# Altium schematic symbol library Regulators.SchLib: 14 symbols
Pins are listed as number, name and electrical type; pins without a type are passive.

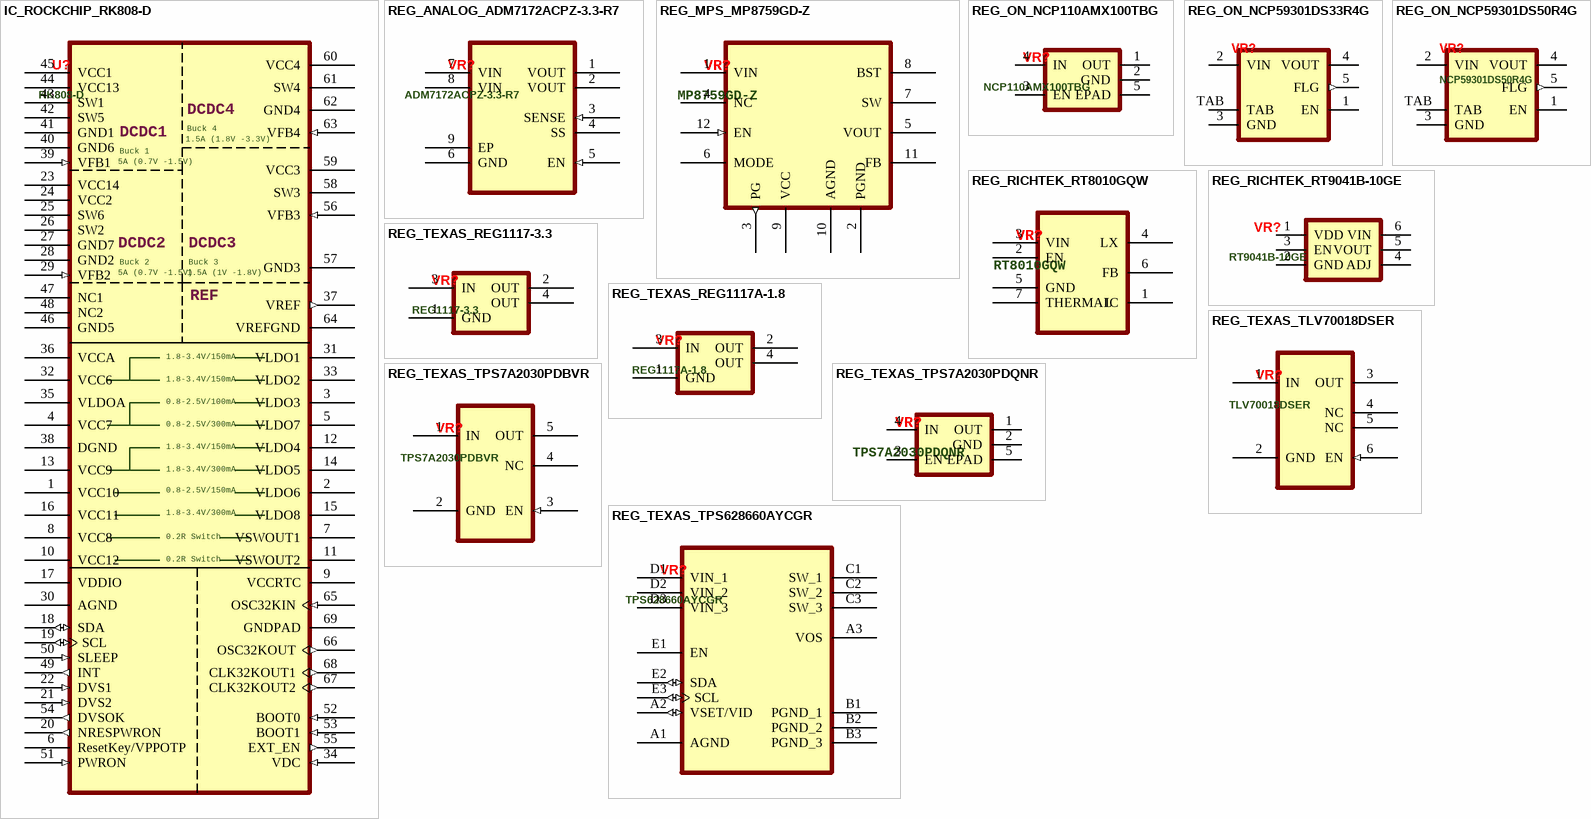
[diagram p0: symbols IC_ROCKCHIP_RK808-D to REG_TEXAS_TPS628660AYCGR]

## IC_ROCKCHIP_RK808-D
designator U?, comment RK808-D
Buck DC-DC Converters (x4), LDO Voltage Regulators (x8), Rds Switches (x2), I2C interface, programmable power sequencing, RTC.; Manufacturer: Fuzhou Rockchip Electronics; Max Supply Voltage: 5.5V; Min Input Voltage: 2.7V; Number of Regulators: 8; Output Type: Adjustable; Polarity: Positive; Manufacturer Part Number: RK808-D; Case/Package: 68-QFN (7x7); ComponentLink1Description: Datasheet; ComponentLink1URL: https://rockchip.fr/RK808%20datasheet%20V1.4.pdf; ComponentLink2Description: Datasheet (Local); ComponentLink2URL: C:\Users\Public\Documents\Altium\Projects\My-PCB-Library\Datasheets\RK808 datasheet V1.4.pdf; Category: Voltage Regulators - Linear
footprint QFN35P700X700X80_HS-69N (QFN, 68-Leads, Body 7.00x7.00mm, Pitch 0.35mm, Thermal Pad 5.49x5.49mm, IPC Medium Density)
footprint QFN35P700X700X80_HS-69L (QFN, 68-Leads, Body 7.00x7.00mm, Pitch 0.35mm, Thermal Pad 5.49x5.49mm, IPC High Density)
footprint QFN35P700X700X80_HS-69M (QFN, 68-Leads, Body 7.00x7.00mm, Pitch 0.35mm, Thermal Pad 5.49x5.49mm, IPC Low Density)
pins: 1 VCC10 (power) "LDO6 Power Supply", 2 VLDO6 (power) "LDO6 Regulator Output", 3 VLDO3 (power) "LDO3 Regulator Output", 4 VCC7 (power) "LDO3,LDO7 Power Supply", 5 VLDO7 (power) "LDO7 Regulator Output", 6 ResetKey/VPPOTP (power) "OTP Power Supply", 7 VSWOUT1 (power) "Switch 1 Output", 8 VCC8 (power) "Switch 1 Power Supply", 9 VCCRTC (power) "RTC Power Supply", 10 VCC12 (power) "Switch 2 Power Supply", 11 VSWOUT2 (power) "Switch 2 Output", 12 VLDO4 (power) "LDO4 Regulator Output", 13 VCC9 (power) "LDO4,LDO5 Power Supply", 14 VLDO5 (power) "LDO5 Regulator Output", 15 VLDO8 (power) "LDO8 Regulator Output", 16 VCC11 (power) "LDO8 Power Supply", 17 VDDIO (power) "Digital I/O Power Supply", 18 SDA (io) "I2C Data Signal", 19 SCL (io) "I2C Clock Signal", 20 NRESPWRON (out) "Power Off Reset for AP / External Reset Digital Core (excludes RTC)", 21 DVS2 (in) "BUCK2 DVS Voltage / Normal Transition Control Signal", 22 DVS1 (in) "BUCK1 DVS Voltage / Normal Transition Control Signal", 23 VCC14 (power) "Buck2 DC-DC Power Supply", 24 VCC2 (power) "Buck2 DC-DC Power Supply", 25 SW6 (power) "Buck2 DC-DC Switch Output", 26 SW2 (power) "Buck2 DC-DC Switch Output", 27 GND7 (power) "Buck2 DC-DC Switch Ground", 28 GND2 (power) "Buck2 DC-DC Switch Ground", 29 VFB2 (in) "Buck2 DC-DC Switch Feedback Voltage", 30 AGND (power) "Analog Ground", 31 VLDO1 (power) "LDO1 Regulator Output", 32 VCC6 (power) "LDO1,LDO2 Power Supply", 33 VLDO2 (power) "LDO2 Regulator Output", 34 VDC (in) "Adapter Voltage Detect Input", 35 VLDOA (power) "Supply for Internal Analog Circuit", 36 VCCA (power) "Analog Power Supply", 37 VREF (out) "Bandgap Voltage", 38 DGND (power) "Digital Ground", 39 VFB1 (in) "Buck1 DC-DC Switch Feedback Voltage", 40 GND6 (power) "Buck1 DC-DC Switch Ground", 41 GND1 (power) "Buck1 DC-DC Switch Ground", 42 SW5 (power) "Buck1 DC-DC Switch Output", 43 SW1 (power) "Buck1 DC-DC Switch Output", 44 VCC13 (power) "Buck1 DC-DC Power Supply", 45 VCC1 (power) "Buck1 DC-DC Power Supply", 46 GND5 (power) "Ground", 47 NC1 "Not Connected", 48 NC2 "Not Connected", 49 INT (out) "Interrupt Flag (Polarity is I2C programmable, default active high)", 50 SLEEP (in) "Active-Sleep State Transition Control Signal", 51 PWRON (in) "External Switch-On Control Signal (ON Button)", 52 BOOT0 (in) "Power-Up Sequence Selection", 53 BOOT1 (in) "Power-Up Sequence Selection", 54 DVSOK (out) "BUCK1 and BUCK2 Power Good Flag after Dynamic Voltage Setting", 55 EXT_EN (out) "Output Enable for External BUCK in 2-Batt Cells Application", 56 VFB3 (in) "Buck3 DC-DC Switch Feedback Voltage", 57 GND3 (power) "Buck3 DC-DC Switch Ground", 58 SW3 (power) "Buck3 DC-DC Switch Output", 59 VCC3 (power) "Buck3 DC-DC Power Supply", 60 VCC4 (power) "Buck4 DC-DC Power Supply", 61 SW4 (power) "Buck4 DC-DC Switch Output", 62 GND4 (power) "Buck4 DC-DC Switch Ground", 63 VFB4 (in) "Buck4 DC-DC Switch Feedback Voltage", 64 VREFGND (power) "Reference Ground", 65 OSC32KIN (in) "32KHz Crystal Oscillator Input", 66 OSC32KOUT (out) "32KHz Crystal Oscillator Output", 67 CLK32KOUT2 (out) "32KHz Clock Output 2, OD Output", 68 CLK32KOUT1 (out) "32KHz Clock Output 1, OD Output (always on)", 69 GNDPAD (power) "Ground"
text: DCDC4; Buck 4; DCDC1; 1.5A (1.8V -3.3V); Buck 1; 5A (0.7V -1.5V); DCDC2; DCDC3; Buck 2; Buck 3; 1.5A (1V -1.8V); REF; 1.8-3.4V/150mA; 0.8-2.5V/100mA; 0.8-2.5V/300mA; 1.8-3.4V/300mA; 0.8-2.5V/150mA; 0.2R Switch

## REG_ANALOG_ADM7172ACPZ-3.3-R7
designator VR?, comment ADM7172ACPZ-3.3-R7
Linear Voltage Regulator IC Positive Fixed 1 Output 3.3V 2A 8-LFCSP-WD (3x3); Manufacturer: Analog Devices; Dropout Voltage: 172mV; Number of Regulators: 1; Min Current Limit: 2.4A; Quiescent Current: 700uA; Max Supply Voltage: 6.5V; Min Input Voltage: 2.3V; Manufacturer Part Number: ADM7172ACPZ-3.3-R7; Category: Voltage Regulators - Linear; Min Operating Temperature: -40°C; Max Operating Temperature: 125°C; Output Voltage: 3.3V; Output Current: 2A; Polarity: Positive; Output Type: Fixed; RoHS Compliant: Yes; Supplier 1: Digi-Key; Supplier Part Number 1: 505-ADM7172ACPZ-3.3-R7CT-ND; Supplier 2: Mouser; Supplier Part Number 2: 584-ADM7172ACPZ3.3R7; ComponentLink1Description: Datasheet; ComponentLink1URL: https://www.analog.com/media/en/technical-documentation/data-sheets/ADM7172.pdf; Case/Package: 8-LFCSP-WD (3x3)
footprint SON50P300X80_HS-9N (SON, 8-Leads, Body 3.00x3.00mm, Pitch 0.50mm, Thermal Pad 2.44x1.49mm, IPC Medium Density)
footprint SON50P300X80_HS-9L (SON, 8-Leads, Body 3.00x3.00mm, Pitch 0.50mm, Thermal Pad 2.44x1.49mm, IPC High Density)
footprint SON50P300X80_HS-9M (SON, 8-Leads, Body 3.00x3.00mm, Pitch 0.50mm, Thermal Pad 2.44x1.49mm, IPC Low Density)
pins: 1 VOUT (power) "Regulated output voltage", 2 VOUT (power) "Regulated output voltage", 3 SENSE (in) "Sense input", 4 SS "Soft Start", 5 EN (in) "Regulator enable", 6 GND (power) "Ground", 7 VIN (power) "Regulator input supply", 8 VIN (power) "Regulator input supply", 9 EP (power) "Exposed Pad"

## REG_MPS_MP8759GD-Z
designator VR?, comment MP8759GD-Z
Buck Switching Regulator IC Positive Adjustable 0.6V 1 Output 8A 12-PowerVFQFN; Manufacturer: Monolithic Power Systems; Output Voltage: 600mV; Max Supply Voltage: 26V; Min Input Voltage: 4.5V; Number of Regulators: 1; Output Current: 10A; Quiescent Current: 135uA; Manufacturer Part Number: MP8759GD-Z; Category: Voltage Regulators - Switching; Min Operating Temperature: -40°C; Max Operating Temperature: 125°C; Output Type: Adjustable; RoHS Compliant: Yes; ComponentLink1URL: https://www.monolithicpower.com/pub/media/document/MP8759_r1.1.pdf?src-supplier=Digi-Key; ComponentLink1Description: Datasheet; Polarity: Positive; Supplier 1: Digi-Key; Supplier Part Number 1: 1589-1736-1-ND; Supplier 2: Mouser; Supplier Part Number 2: 946-MP8759GD-Z; Case/Package: 12-QFN (2x3)
footprint IC_MPS_MP8759GDZ (Buck Switching Regulator IC Positive Adjustable 0.6V 1 Output 8A 12-PowerVFQFN)
pins: 1 VIN (power) "Supply Voltage", 2 PGND (power) "Power Ground", 3 PG (out) "Power Good Output", 4 NC "Do Not Connect", 5 VOUT (power) "Output Voltage", 6 MODE "USM, PFM, PWM mode selection", 7 SW "Switch Output", 8 BST "Bootstrap", 9 VCC (power) "Internal VCC LDO Output", 10 AGND (power) "Signal Logic Ground", 11 FB "Feedback", 12 EN (in) "Enable"

## REG_ON_NCP110AMX100TBG
designator VR?, comment NCP110AMX100TBG
Linear Voltage Regulator IC Positive Fixed 1 Output 200mA 4-XDFN (1x1); Manufacturer: ON Semiconductor; Max Supply Voltage: 5.5V; Number of Regulators: 1; Output Voltage: 1V; Quiescent Current: 25uA; Supplier 1: Mouser; Manufacturer Part Number: NCP110AMX100TBG; Category: Voltage Regulators - Linear; RoHS Compliant: Yes; Supplier 2: Digi-Key; Supplier Part Number 1: 863-NCP110AMX100TBG; Supplier Part Number 2: NCP110AMX100TBGOSTR-ND; ComponentLink1Description: Datasheet; ComponentLink1URL: https://www.onsemi.com/pdf/datasheet/ncp110-d.pdf; Case/Package: 4-XDFN (1x1); Max Operating Temperature: 125°C; Min Operating Temperature: -40°C; Output Current: 200mA; Output Type: Fixed; Polarity: Positive
footprint XDFN65P100X43_HS-5N (XDFN, 5-Leads, Body 1.00x1.00mm, Pitch 0.65mm, Thermal Pad 0.52x0.52mm, IPC Medium Density)
pins: 1 OUT (power) "Regulated Output Voltage", 2 GND (power) "Ground", 3 EN "Chip Enable", 4 IN (power) "Input Voltage Supply", 5 EPAD (power) "Can be tied to GND"

## REG_ON_NCP59301DS33R4G
designator VR?, comment NCP59301DS33R4G  (value not drawn)
Linear Voltage Regulator IC Positive Fixed 1 Output 3A D2PAK-5; Manufacturer: ON Semiconductor; Output Voltage: 3.3V; Min Input Voltage: 2.24V; Number of Regulators: 1; Dropout Voltage: 500mV; Max Supply Voltage: 13.5V; Manufacturer Part Number: NCP59301DS33R4G; Category: Voltage Regulators - Linear; Case/Package: D2PAK; Min Operating Temperature: -40°C; Max Operating Temperature: 125°C; Output Type: Fixed; Output Current: 3A; Polarity: Positive; ComponentLink1URL: https://www.digikey.com/en/htmldatasheets/production/1123947/0/0/1/ncp59300-series.html?site=US&lang=en&cur=USD; ComponentLink1Description: Datasheet; RoHS Compliant: Yes
footprint DPAK170P1420X457-6N (D2-PAK, 6-Pads, Body 7.77x8.48mm (max), IPC Medium Density)
footprint DPAK170P1420X457-6L (D2-PAK, 6-Pads, Body 7.77x8.48mm (max), IPC High Density)
footprint DPAK170P1420X457-6M (D2-PAK, 6-Pads, Body 7.77x8.48mm (max), IPC Low Density)
pins: 1 EN, 2 VIN (power), 3 GND (power), 4 VOUT (power), 5 FLG (out), TAB (power)

## REG_ON_NCP59301DS50R4G
designator VR?, comment NCP59301DS50R4G
Linear Voltage Regulator IC Positive Fixed 1 Output 3A D2PAK-5; Manufacturer: ON Semiconductor; Min Input Voltage: 2.24V; Output Voltage: 5V; Number of Regulators: 1; Dropout Voltage: 500mV; Max Supply Voltage: 13.5V; Manufacturer Part Number: NCP59301DS50R4G; Case/Package: D2PAK; Min Operating Temperature: -40°C; Max Operating Temperature: 125°C; Output Current: 3A; Polarity: Positive; Output Type: Fixed; RoHS Compliant: Yes; ComponentLink1URL: https://www.digikey.com/en/htmldatasheets/production/1123947/0/0/1/ncp59300-series.html?site=US&lang=en&cur=USD; ComponentLink1Description: Datasheet; Category: Voltage Regulators - Linear
footprint DPAK170P1420X457-6N (D2-PAK, 6-Pads, Body 7.77x8.48mm (max), IPC Medium Density)
footprint DPAK170P1420X457-6L (D2-PAK, 6-Pads, Body 7.77x8.48mm (max), IPC High Density)
footprint DPAK170P1420X457-6M (D2-PAK, 6-Pads, Body 7.77x8.48mm (max), IPC Low Density)
pins: 1 EN, 2 VIN (power), 3 GND (power), 4 VOUT (power), 5 FLG (out), TAB (power)

## REG_RICHTEK_RT8010GQW
designator VR?, comment RT8010GQW
Buck Switching Regulator IC Positive Adjustable 0.6V 1 Output 1A 6-WDFN Exposed Pad; Manufacturer: Richtek; Output Voltage: 3.3V; Min Input Voltage: 2.5V; Max Supply Voltage: 5.5V; Number of Regulators: 1; Manufacturer Part Number: RT8010GQW; Category: Voltage Regulators - Switching; Case/Package: 6-WDFN (2x2); Min Operating Temperature: -40°C; Max Operating Temperature: 85°C; Output Current: 1A; Output Type: Adjustable; RoHS Compliant: Yes; ComponentLink1URL: https://www.richtek.com/assets/product_file/RT8010=RT8010A/DS8010A-12.pdf; ComponentLink1Description: Datasheet; Polarity: Positive; Supplier 1: Digi-Key; Supplier Part Number 1: 1028-1492-1-ND
footprint SON65P200X80_HS-7N (SON, 6-Leads, Body 2.00x2.00mm, Pitch 0.65mm, Thermal Pad 1.23x0.68mm, IPC Medium Density)
footprint SON65P200X80_HS-7L (SON, 6-Leads, Body 2.00x2.00mm, Pitch 0.65mm, Thermal Pad 1.23x0.68mm, IPC High Density)
footprint SON65P200X80_HS-7M (SON, 6-Leads, Body 2.00x2.00mm, Pitch 0.65mm, Thermal Pad 1.23x0.68mm, IPC Low Density)
pins: 1 IC "Internal Connection", 2 EN "Chip Enable", 3 VIN (power) "Power Input", 4 LX "Pin for switching", 5 GND (power) "Ground", 6 FB (power) "Feeback/Output Voltage", 7 THERMAL (power) "Ground"

## REG_RICHTEK_RT9041B-10GE
designator VR?, comment RT9041B-10GE
Linear Voltage Regulator IC Positive Adjustable (Fixed) 1 Output 500mA SOT-23-6; Manufacturer: Richtek; Min Input Voltage: 1V; Dropout Voltage: 300mV; Output Voltage: 2.5V; Number of Regulators: 1; Min Current Limit: 550mA; Max Supply Voltage: 5.5V; Quiescent Current: 250uA; Supplier 1: Digi-Key; Manufacturer Part Number: RT9041B-10GE; Category: Voltage Regulators - Linear; Case/Package: SOT-23-6; Min Operating Temperature: -40°C; Max Operating Temperature: 85°C; Output Current: 500mA; RoHS Compliant: Yes; ComponentLink1URL: https://www.richtek.com/assets/product_file/RT9041A=RT9041B/DS9041AB-04.pdf; ComponentLink1Description: Datasheet; Supplier Part Number 1: RT9041B-10GE-ND; Output Type: Adjustable (Fixed); Polarity: Positive
footprint SOT95P279X130-6N (SOT23, 6-Leads, Body 2.90x2.79mm, Pitch 0.95mm, IPC Medium Density)
footprint SOT95P279X130-6L (SOT23, 6-Leads, Body 2.90x2.79mm, Pitch 0.95mm, IPC High Density)
footprint SOT95P279X130-6M (SOT23, 6-Leads, Body 2.90x2.79mm, Pitch 0.95mm, IPC Low Density)
pins: 1 VDD (power) "Supply Voltage of Control Circuitry", 2 GND (power) "Ground", 3 EN "Chip Enable", 4 ADJ "Ground or Adjust with Resistors", 5 VOUT (power) "Output Voltage", 6 VIN (power) "Supply Input Voltage"

## REG_TEXAS_REG1117-3.3
designator VR?, comment REG1117-3.3
Linear Voltage Regulator IC Positive Fixed 1 Output 800mA SOT-223-4; Manufacturer: Texas Instruments; Dropout Voltage: 1.2V; Max Supply Voltage: 15V; Number of Regulators: 1; Output Voltage: 3.3V; Quiescent Current: 10mA; Category: Voltage Regulators - Linear; Manufacturer Part Number: REG1117-3.3; Max Operating Temperature: 125°C; Min Current Limit: 800mA; Min Operating Temperature: -40°C; Output Current: 800mA; Output Type: Fixed; Polarity: Positive; RoHS Compliant: Yes; Supplier 1: Mouser; Supplier Part Number 1: 595-REG1117-3.3; ComponentLink1Description: Datasheet; ComponentLink1URL: https://rocelec.widen.net/view/pdf/f0nffzgjqp/sbvs001d.pdf?t.download=true&u=5oefqw; Case/Package: SOT-223-4
footprint SOT230P700X180-4N (SOT223, 4-Leads, Body 6.50x7.00mm (avg), Pitch 2.30mm, IPC Medium Density)
footprint SOT230P700X180-4M (SOT223, 4-Leads, Body 6.50x7.00mm (avg), Pitch 2.30mm, IPC Low Density)
footprint SOT230P700X180-4L (SOT223, 4-Leads, Body 6.50x7.00mm (avg), Pitch 2.30mm, IPC High Density)
pins: 1 GND (power) "Ground", 2 OUT (power) "Regulated output voltage", 3 IN (power) "Input pin", 4 OUT (power) "Regulated output voltage"

## REG_TEXAS_REG1117A-1.8
designator VR?, comment REG1117A-1.8
Linear Voltage Regulator IC Positive Fixed 1 Output 1A SOT-223-4; Manufacturer: Texas Instruments; Output Voltage: 1.8V; Max Supply Voltage: 15V; Min Input Voltage: 3.8V; Quiescent Current: 4mA; Dropout Voltage: 1.2V; Number of Regulators: 1; Manufacturer Part Number: REG1117A-1.8; Category: Voltage Regulators - Linear; Min Operating Temperature: 0°C; Max Operating Temperature: 125°C; Output Current: 1A; Output Type: Fixed; Polarity: Positive; Min Current Limit: 1A; RoHS Compliant: Yes; Supplier 1: Digi-Key; Supplier Part Number 1: REG1117A-1.8-ND; Supplier 2: Mouser; Supplier Part Number 2: 595-REG1117A-1.8; ComponentLink1Description: Datasheet; ComponentLink1URL: https://rocelec.widen.net/view/pdf/f0nffzgjqp/sbvs001d.pdf?t.download=true&u=5oefqw; Case/Package: SOT-223-4
footprint SOT230P700X180-4N (SOT223, 4-Leads, Body 6.50x7.00mm (avg), Pitch 2.30mm, IPC Medium Density)
footprint SOT230P700X180-4M (SOT223, 4-Leads, Body 6.50x7.00mm (avg), Pitch 2.30mm, IPC Low Density)
footprint SOT230P700X180-4L (SOT223, 4-Leads, Body 6.50x7.00mm (avg), Pitch 2.30mm, IPC High Density)
pins: 1 GND (power) "Ground", 2 OUT (power) "Regulated output voltage", 3 IN (power) "Input pin", 4 OUT (power) "Regulated output voltage"

## REG_TEXAS_TLV70018DSER
designator VR?, comment TLV70018DSER
Linear Voltage Regulator IC Positive Fixed 1 Output 200mA 6-WSON (1.5x1.5); Manufacturer: Texas Instruments; Output Voltage: 1.8V; Dropout Voltage: 175mV; Max Supply Voltage: 5.5V; Min Input Voltage: 2V; Number of Regulators: 1; Min Current Limit: 220mA; Quiescent Current: 30uA; Manufacturer Part Number: TLV70018DSER; Category: Voltage Regulators - Linear; Min Operating Temperature: -40°C; Max Operating Temperature: 125°C; Output Current: 200mA; Polarity: Positive; Output Type: Fixed; RoHS Compliant: Yes; ComponentLink1Description: Datasheet; ComponentLink1URL: https://www.ti.com/general/docs/suppproductinfo.tsp?distId=10&gotoUrl=https%3A%2F%2Fwww.ti.com%2Flit%2Fgpn%2Ftlv700; Supplier 1: Digi-Key; Supplier Part Number 1: 296-39277-1-ND; Supplier 2: Mouser; Supplier Part Number 2: 595-TLV70018DSER; Case/Package: 6-WSON (1.5x1.5)
footprint SON50P150X80-6N (SON, 6-Leads, Body 1.50x1.50mm, Pitch 0.50mm, IPC Medium Density)
footprint SON50P150X80-6M (SON, 6-Leads, Body 1.50x1.50mm, Pitch 0.50mm, IPC Low Density)
footprint SON50P150X80-6L (SON, 6-Leads, Body 1.50x1.50mm, Pitch 0.50mm, IPC High Density)
pins: 1 IN (power) "Input pin", 2 GND (power) "Ground", 3 OUT (power) "Regulated output voltage", 4 NC "No connection", 5 NC "No connection", 6 EN (in) "Enable pin"

## REG_TEXAS_TPS7A2030PDBVR
designator VR?, comment TPS7A2030PDBVR
Linear Voltage Regulator IC Positive Fixed 1 Output 300mA SOT-23-5; Manufacturer: Texas Instruments; Output Voltage: 3V; Dropout Voltage: 140mV; Max Supply Voltage: 6V; Min Input Voltage: 1.6V; Number of Regulators: 1; Min Current Limit: 360mA; Quiescent Current: 15 µA; Manufacturer Part Number: TPS7A2030PDBVR; Category: Voltage Regulators - Linear; Min Operating Temperature: -40°C; Max Operating Temperature: 125°C; Output Current: 300mA; Polarity: Positive; Output Type: Fixed; RoHS Compliant: Yes; ComponentLink1Description: Datasheet; ComponentLink1URL: https://www.ti.com/general/docs/suppproductinfo.tsp?distId=10&gotoUrl=http%3A%2F%2Fwww.ti.com%2Flit%2Fgpn%2Ftps7a20; Supplier 1: Digi-Key; Supplier Part Number 1: 296-TPS7A2030PDBVRCT-ND; Supplier 2: Mouser; Supplier Part Number 2: 595-TPS7A2030PDBVR; Case/Package: SOT-23-5
footprint SOT95P280X145-5N (SOT23, 5-Leads, Body 2.90x2.80mm, Pitch 0.95mm, IPC Medium Density)
footprint SOT95P280X145-5M (SOT23, 5-Leads, Body 2.90x2.80mm, Pitch 0.95mm, IPC Low Density)
footprint SOT95P280X145-5L (SOT23, 5-Leads, Body 2.90x2.80mm, Pitch 0.95mm, IPC High Density)
pins: 1 IN (power) "Input pin", 2 GND (power) "Ground", 3 EN (in) "Enable pin", 4 NC "No connection", 5 OUT (power) "Regulated output voltage"

## REG_TEXAS_TPS7A2030PDQNR
designator VR?, comment TPS7A2030PDQNR
Linear Voltage Regulator IC Positive Fixed 1 Output 300mA 4-X2SON (1x1); Manufacturer: Texas Instruments; Dropout Voltage: 140mV; Max Supply Voltage: 6V; Min Current Limit: 360mA; Min Input Voltage: 1.6V; Number of Regulators: 1; Output Voltage: 3V; Quiescent Current: 15 µA; Supplier 1: Digi-Key; Supplier Part Number 1: 296-TPS7A2030PDQNRCT-ND; Manufacturer Part Number: TPS7A2030PDQNR; Category: Voltage Regulators - Linear; RoHS Compliant: Yes; ComponentLink1Description: Datasheet; ComponentLink1URL: https://www.ti.com/general/docs/suppproductinfo.tsp?distId=10&gotoUrl=http%3A%2F%2Fwww.ti.com%2Flit%2Fgpn%2Ftps7a20; Case/Package: 4-X2SON (1x1); Max Operating Temperature: 125°C; Min Operating Temperature: -40°C; Output Current: 300mA; Output Type: Fixed; Polarity: Positive
footprint XDFN65P100X43_HS-5N (XDFN, 5-Leads, Body 1.00x1.00mm, Pitch 0.65mm, Thermal Pad 0.52x0.52mm, IPC Medium Density)
pins: 1 OUT (power) "Regulated Output Voltage", 2 GND (power) "Ground", 3 EN "Chip Enable", 4 IN (power) "Input Voltage Supply", 5 EPAD (power) "Can be tied to GND"

## REG_TEXAS_TPS628660AYCGR
designator VR?, comment TPS628660AYCGR
Buck Switching Regulator IC Positive Adjustable 0.4V 1 Output 6A 15-XFBGA, DSBGA; Manufacturer: Texas Instruments; Max Supply Voltage: 5.5V; Min Input Voltage: 2.4V; Number of Regulators: 1; Supplier 1: Digi-Key; Manufacturer Part Number: TPS628660AYCGR; Category: Voltage Regulators - Switching; RoHS Compliant: Yes; Supplier 2: Mouser; Supplier Part Number 1: 296-TPS628660AYCGRTR-ND; Supplier Part Number 2: 595-TPS628660AYCGR; Case/Package: 15-DSBGA (1.78x1.05); Max Operating Temperature: 125°C; Min Operating Temperature: -40°C; Output Current: 6A; Output Type: Adjustable; Output Voltage: 0.4V; Polarity: Positive; ComponentLink1Description: Datasheet; ComponentLink1URL: https://www.ti.com/lit/ds/symlink/tps62866.pdf?ts=1676454776604&ref_url=https%253A%252F%252Fwww.ti.com%252Fsitesearch%252Fen-us%252Fdocs%252Funiversalsearch.tsp%253FlangPref%253Den-US%2526searchTerm%253DTPS62866%2526nr%253D72
footprint BGA15C35P3X5_105X178X50 (BGA, 15-Leads, Body 1.05x1.78mmx0.50mm, Pitch 0.35mm)
pins: A1 AGND (power) "Analog Ground", A2 VSET/VID (io) "Start-up Output Voltage and Device Address Selection", A3 VOS "Output Voltage Sense", B1 PGND_1 (power) "Power Ground", B2 PGND_2 (power) "Power Ground", B3 PGND_3 (power) "Power Ground", C1 SW_1 "Switch Pin of the Power Stage", C2 SW_2 "Switch Pin of the Power Stage", C3 SW_3 "Switch Pin of the Power Stage", D1 VIN_1 (power) "Power Supply Input Voltage", D2 VIN_2 (power) "Power Supply Input Voltage", D3 VIN_3 (power) "Power Supply Input Voltage", E1 EN "Device Enable", E2 SDA (io) "I2C Serial Data", E3 SCL (io) "i2C Serial Clock"